# Altium footprint library Springs.PcbLib: 3 footprints
Each footprint in its own frame and in the unit in brackets; x right, y up, seen from the top. Pads: shape width x height; smd on the part's side, far side on the other; paste and mask are expansions set on the pad; w line width, h text height; cw(c..) or ccw(c..) is an arc to the next point about the centre after c.
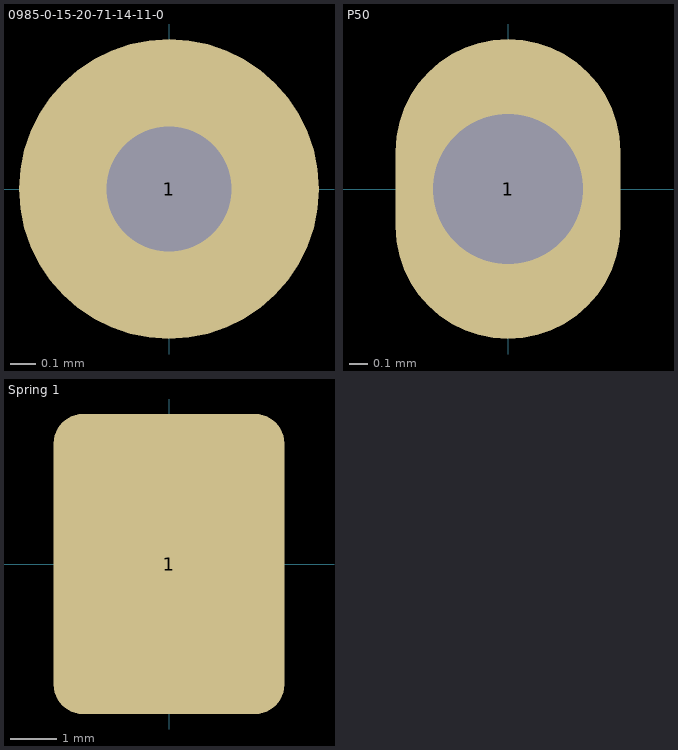
[diagram p0: the footprints below, top view; thin cyan lines are the x and y axes]

## 0985-0-15-20-71-14-11-0 [mm] "Spring loaded pogo pin, 4.87 - 6.27 mm length"
height 6.27
pads (1):
  round 1.2 hole 0.5: 1(0,0)
3D body: height 0, standoff -2.62, extent -0.202,-0.203 0.203,0.203
3D body: height 6.27, standoff 4.72, extent -0.239,-0.241 0.241,0.241
3D body: height 4.72, standoff 0, extent -0.466,-0.469 0.47,0.469

## P50 [mm] "Spring loaded probe"
pads (1):
  oval 1.2x1.6 hole 0.8: 1(0,0)
3D body: height 8.9, standoff -7.65, extent -0.337,-0.339 0.34,0.339

## Spring 1 [mm] "Spring 1"
pads (1):
  rrect25% 5x6.5 smd: 1(0,0)
3D body: height 32.31, standoff 0, extent -1,-10.868 3,1.75
3D body: height 15.49, standoff 0, extent -2,-10.249 3,2.75